# Altium schematic symbol library Transistor.SCHLIB: 20 symbols
Pins are listed as number, name and electrical type; pins without a type are passive.

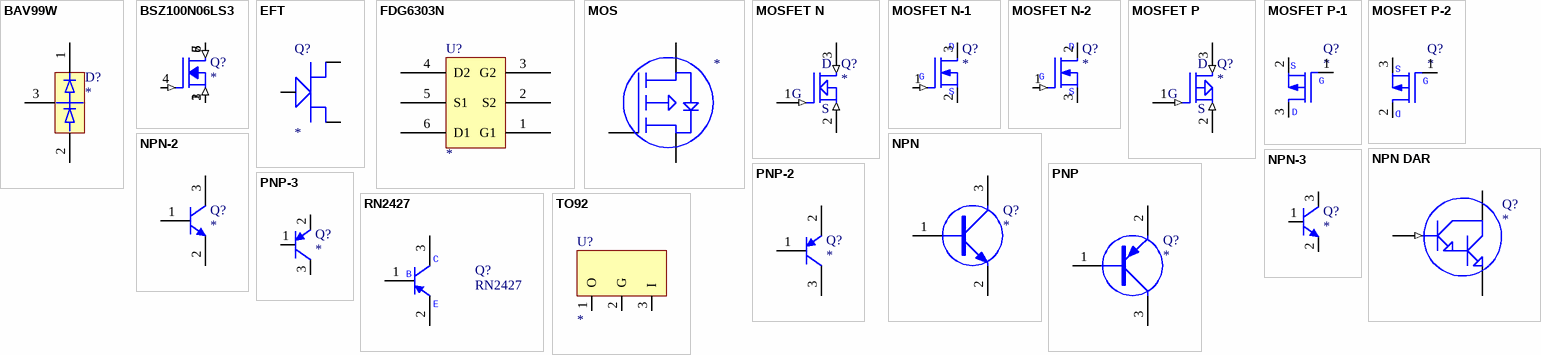
[diagram p0: symbols BAV99W to TO92]

## BAV99W
designator D?
High Speed Double Diode
footprint SMDQ
pins: 1, 2, 3

## BSZ100N06LS3
designator Q?
footprint TSDSON-8
pins: 1 SOURCE, 2 SOURCE (in), 3 SOURCE (in), 4 GATE (in), 5 DRAIN (in), 6 DRAIN (in), 7 DRAIN (in), 8 DRAIN (in)
2 alternate drawings of the same symbol

## EFT
designator Q?
footprint SMDQ
pins: 1 B, 2 E, 3 C

## FDG6303N
designator U?
footprint SOT-6
pins: 1 G1, 2 S2, 3 G2, 4 D2, 5 S1, 6 D1

## MOS
designator ?
pins: 1 G, 2 S, 3 D

## MOSFET N
designator Q?
footprint SOT-23
pins: 1 G (in), 2 S (in), 3 D (in)

## MOSFET N-1
designator Q?
footprint SOT-23
pins: 1 GATE (in), 2 SOURCE, 3 DRAIN
2 alternate drawings of the same symbol
text: D; G; S

## MOSFET N-2
designator Q?
footprint TO-252
pins: 1 GATE (in), 2 DRAIN, 3 SOURCE
2 alternate drawings of the same symbol
text: D; G; S

## MOSFET P
designator Q?
footprint SOT-23
pins: 1 G (in), 2 S (in), 3 D (in)

## MOSFET P-1
designator Q?
footprint SOT-23
pins: 1 GATE, 2 SOURCE, 3 DRAIN
2 alternate drawings of the same symbol
text: S; G; D

## MOSFET P-2
designator Q?
footprint TO-252
pins: 1 GATE, 2 DRAIN, 3 SOURCE
2 alternate drawings of the same symbol
text: S; G; D

## NPN
designator Q?
NPN Transistor
footprint SMDQ
footprint DIPQ1
pins: 1 B, 2 E, 3 C

## NPN DAR
designator Q?
NPN Darlington Transistor
footprint SMDQ
pins: 1 B (in), 2 E, 3 C

## NPN-2
designator Q?
NPN General Purpose Amplifier; Published: *; LatestRevisionDate: *; LatestRevisionNote: *; DatasheetDocument: *; PackageDocument: *; PackageReference: *; Publisher: *; Code_JEDEC: *; ComponentLink1Description: *; ComponentLink1URL: *; ComponentLink2Description: *; ComponentLink2URL: *
footprint TO-92A
footprint SOT-23
pins: 1 B, 2 E, 3 C
2 alternate drawings of the same symbol

## NPN-3
designator Q?
NPN General Purpose Amplifier; Published: *; LatestRevisionDate: *; LatestRevisionNote: *; DatasheetDocument: *; PackageDocument: *; PackageReference: *; Publisher: *; Code_JEDEC: *; ComponentLink1Description: *; ComponentLink1URL: *; ComponentLink2Description: *; ComponentLink2URL: *
footprint TO-92A
footprint SOT-23
pins: 1 B, 2 E, 3 C
2 alternate drawings of the same symbol

## PNP
designator Q?
PNP Transistor
footprint SMDQ
pins: 1 B, 2 E, 3 C

## PNP-2
designator Q?
PNP General Purpose Amplifier; Published: *; LatestRevisionDate: *; LatestRevisionNote: *; DatasheetDocument: *; PackageDocument: *; PackageReference: *; Publisher: *; Code_JEDEC: *; ComponentLink1Description: *; ComponentLink1URL: *; ComponentLink2Description: *; ComponentLink2URL: *
footprint TO-92A
footprint SOT-23
pins: 1 B, 2 E, 3 C
2 alternate drawings of the same symbol

## PNP-3
designator Q?
PNP General Purpose Amplifier; Published: *; LatestRevisionDate: *; LatestRevisionNote: *; DatasheetDocument: *; PackageDocument: *; PackageReference: *; Publisher: *; Code_JEDEC: *; ComponentLink1Description: *; ComponentLink1URL: *; ComponentLink2Description: *; ComponentLink2URL: *
footprint TO-92A
footprint SOT-23
pins: 1 B, 2 E, 3 C
2 alternate drawings of the same symbol

## RN2427
designator Q?
PNP Transistor
footprint SMDQ
pins: 1 B, 2 E, 3 C

## TO92
designator U?
Text Field1: 20; Text Field2: 10
footprint TO92
pins: 1 O, 2 G, 3 I